# EAGLE library part 74LVC4066 (library imix)
74LVC4066 bidirectional quad analog switch.
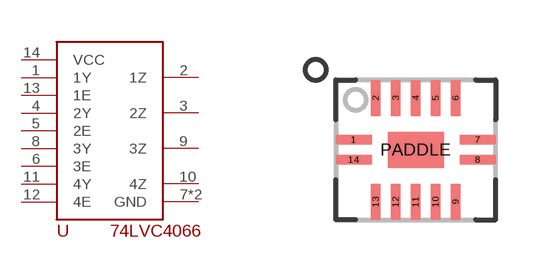
[diagram p15: symbol with the pads of DHVQFN14; footprint DHVQFN14]

Designator prefix U

## 74LVC4066BQ (DATASHEET: http://www.digikey.com/product-detail/en/nexperia-usa-inc/74LVC4066BQ,115/568-3019-1-ND/1023424; MANUFACTURER: Nexperia USA Inc.; MPN: 74LVC4066BQ; VENDOR: Digikey; VPN: 568-3019-1-ND)  [DHVQFN14]
1  1Y
2  1Z
3  2Z
4  2Y
5  2E  in
6  3E  in
7  GND  pwr
8  3Y
9  3Z
10  4Z
11  4Y
12  4E  in
13  1E  in
14  VCC  pwr
PADDLE  GND  pwr

## Footprint DHVQFN14 (pad centres in mm)
Dual in-line compatible thermal enhanced very thin quad flat package, 14 terminals; body 2.5 x 3 x 0.85 mm. NXP definition: http://www.nxp.com/documents/outline_drawing/SOT762-1.pdf
smd 0.9 x 0.24: 1 -1.55,0.25; 7 1.55,0.25; 8 1.55,-0.25; 14 -1.55,-0.25
smd 0.24 x 0.9: 2 -1,1.3; 3 -0.5,1.3; 4 0,1.3; 5 0.5,1.3; 6 1,1.3; 9 1,-1.3; 10 0.5,-1.3; 11 0,-1.3; 12 -0.5,-1.3; 13 -1,-1.3
smd 1.4 x 0.9: PADDLE 0,0